# Altium integrated library Motor-Header2.IntLib: 1 symbol
Pins are listed as number, name and electrical type; pins without a type are passive.

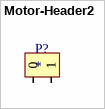
[diagram p0: symbol Motor-Header2]

## Motor-Header2
designator P?
footprint Motor-Header2
pins: 0, 1